# EAGLE library part AVX_CERAMIC_CAPACITOR_ARRAY_W2A4ZC104M4T4A (library array-capacitor)
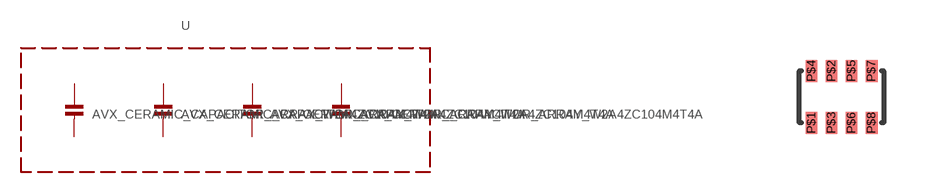
[diagram p1: symbol with the pads of CAPACITOR_ARRAY_0508_MONO_1X4; footprint CAPACITOR_ARRAY_0508_MONO_1X4]

Designator prefix -

## AVX_CERAMIC_CAPACITOR_ARRAY_W2A4ZC104M4T4A  [CAPACITOR_ARRAY_0508_MONO_1X4]
P$1  P$1  pas
P$2  P$2  pas
P$3  P$3  pas
P$4  P$4  pas
P$5  P$5  pas
P$6  P$6  pas
P$7  P$7  pas
P$8  P$8  pas

## Footprint CAPACITOR_ARRAY_0508_MONO_1X4 (pad centres in mm)
smd 0.3 x 0.56: P$1 -0.75,-0.65; P$2 -0.25,0.65; P$3 -0.25,-0.65; P$4 -0.75,0.65; P$5 0.25,0.65; P$6 0.25,-0.65; P$7 0.75,0.65; P$8 0.75,-0.65